# EAGLE library part 649024227222 (library Wire_to_Board_Connectors_rev15d)
WR-MPC4-4.20mm Male Dual Row Angled Header with Mounting Pegs,24 pins=>Code : Con_WTB_MPC4_2_PCB_649024227222 <http://katalog.we-online.de/media/thumbs2/eican/thb_Con_WTB_MPC4_2_PCB_6490xx227222_pf2.jpg> Details see: http://katalog.we-online.de/en/em/649_0xx_227_222 Created 2014-06-06, Karrer Zheng 2014 (C) Würth Elektronik
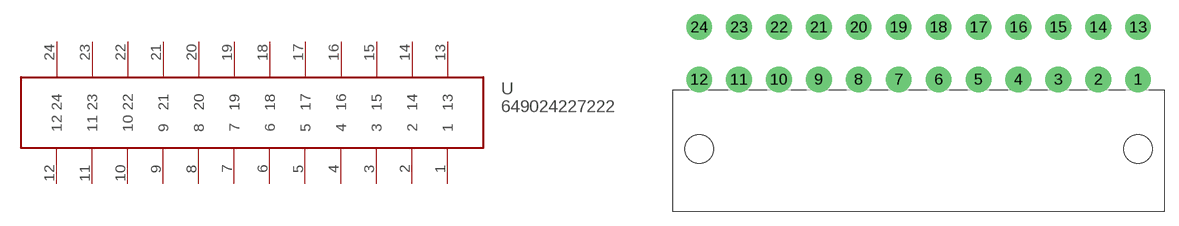
[diagram p323: symbol with the pads of 649024227222; footprint 649024227222]

Designator prefix -

## 649024227222  [649024227222]
1  1
2  2
3  3
4  4
5  5
6  6
7  7
8  8
9  9
10  10
11  11
12  12
13  13
14  14
15  15
16  16
17  17
18  18
19  19
20  20
21  21
22  22
23  23
24  24

## Footprint 649024227222 (pad centres in mm)
WR-MPC4-4.20mm Male Dual Row Angled Header with Mounting Pegs,24 pins
drill 1.8: 1 23.1,7.3; 2 18.9,7.3; 3 14.7,7.3; 4 10.5,7.3; 5 6.3,7.3; 6 2.1,7.3; 7 -2.1,7.3; 8 -6.3,7.3; 9 -10.5,7.3; 10 -14.7,7.3; 11 -18.9,7.3; 12 -23.1,7.3; 13 23.1,12.8; 14 18.9,12.8; 15 14.7,12.8; 16 10.5,12.8; 17 6.3,12.8; 18 2.1,12.8; 19 -2.1,12.8; 20 -6.3,12.8; 21 -10.5,12.8; 22 -14.7,12.8; 23 -18.9,12.8; 24 -23.1,12.8
hole 3 at -23.1,0
hole 3 at 23.1,0